# Altium footprint library con-3m.PCBLIB: 62 footprints (part 5 of 6)
Each footprint in its own frame and in the unit in brackets; x right, y up, seen from the top. Pads: shape width x height; smd on the part's side, far side on the other; paste and mask are expansions set on the pad; w line width, h text height; cw(c..) or ccw(c..) is an arc to the next point about the centre after c.
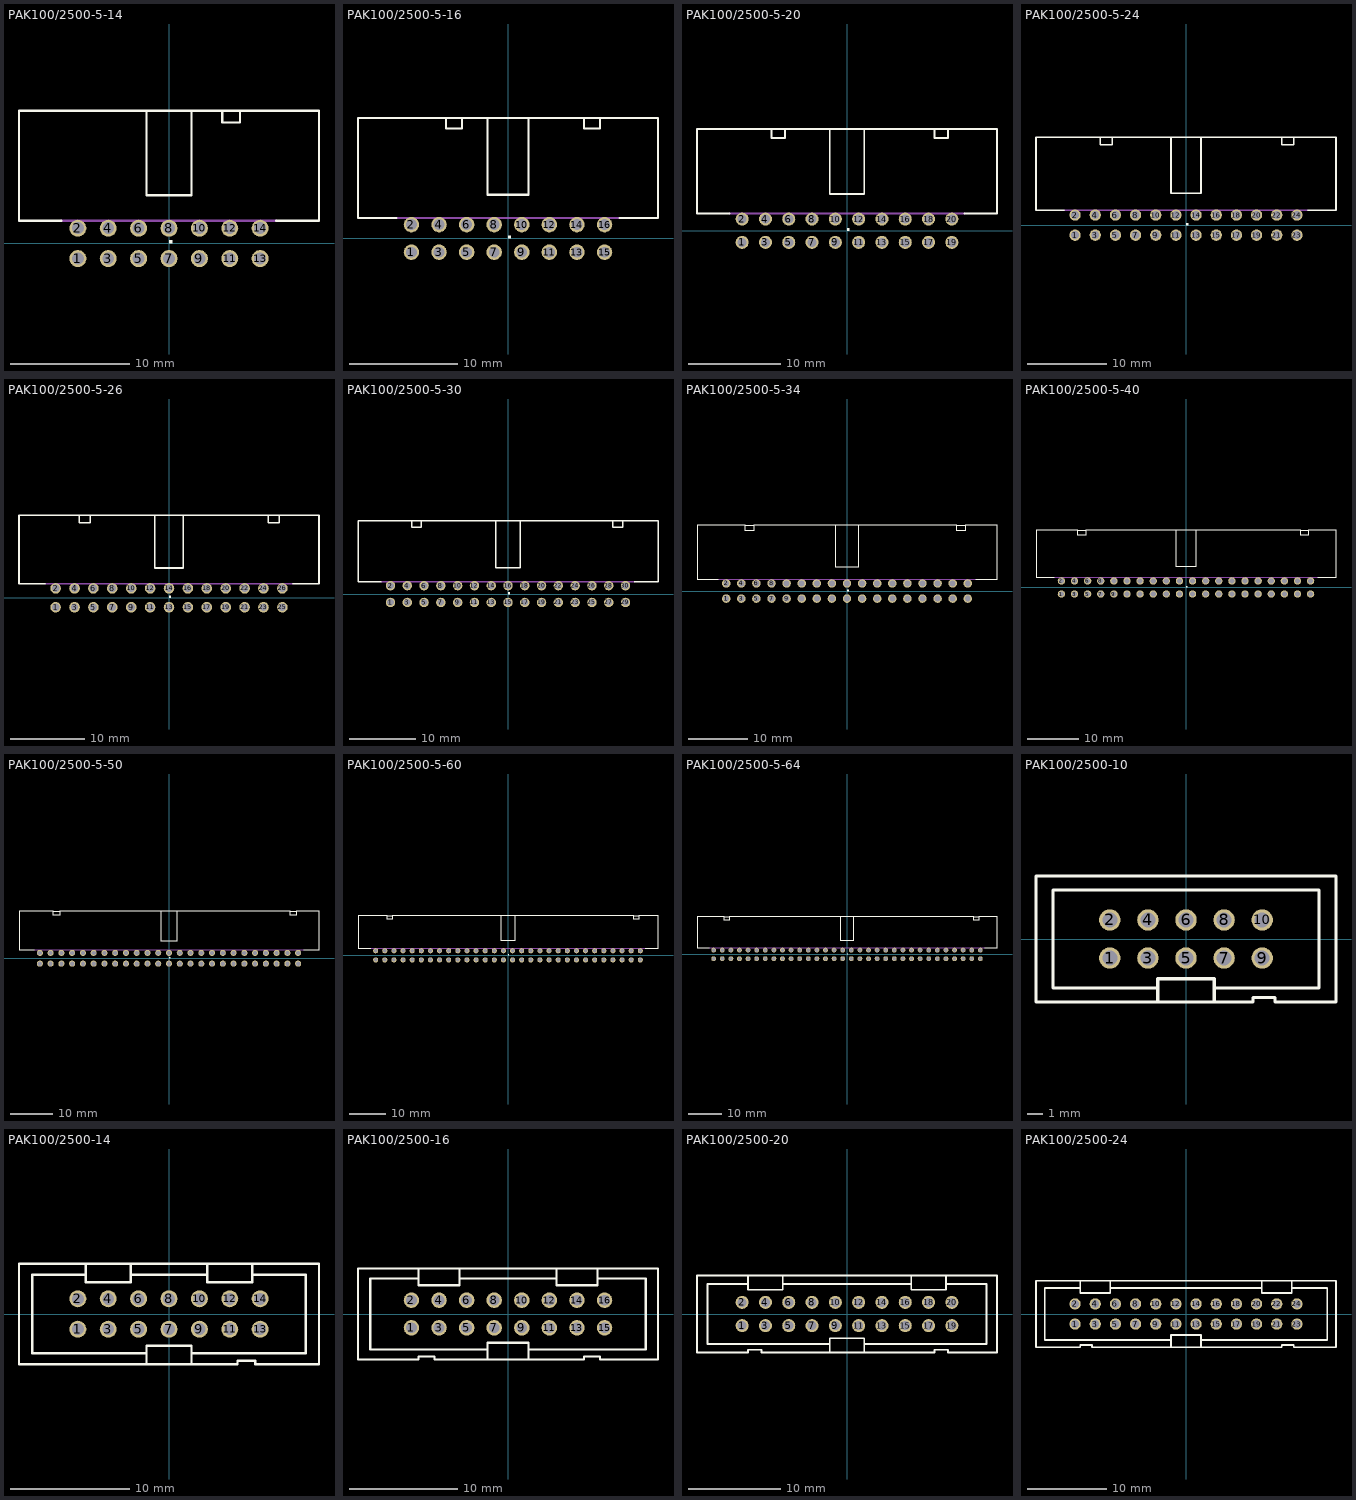
[diagram p4: the footprints below, top view; thin cyan lines are the x and y axes]

## PAK100/2500-5-14 [mil]
pads (14):
  round 56 hole 39.37: 1(-300,-50) 2(-300,50) 3(-200,-50) 4(-200,50) 5(-100,-50) 6(-100,50) 7(0,-50) 8(0,50) 9(100,-50) 10(100,50) 11(200,-50) 12(200,50) 13(300,-50) 14(300,50)
Top Overlay:
  region: 0,0 10,0 10,10 0,10
  lines w8: -354.17,73.82 -493.7,73.82 -493.7,436.02 -74.13,436.02 ; 353.66,73.82 493.7,73.82 493.7,436.02 233.78,436.02 ; -74.13,436.02 -74.13,157.87 74.13,157.87 74.13,436.02 ; -74.13,436.02 74.13,436.02 ; 74.13,436.02 175.55,436.02 ; 175.55,436.02 233.78,436.02 ; 175.55,436.02 175.55,397.83 233.78,397.83 233.78,436.02
Mechanical 16:
  lines w8: -354.02,73.82 353.5,73.82

## PAK100/2500-5-16 [mil]
pads (16):
  round 56 hole 39.37: 1(-350,-50) 2(-350,50) 3(-250,-50) 4(-250,50) 5(-150,-50) 6(-150,50) 7(-50,-50) 8(-50,50) 9(50,-50) 10(50,50) 11(150,-50) 12(150,50) 13(250,-50) 14(250,50) 15(350,-50) 16(350,50)
Top Overlay:
  region: 0,0 10,0 10,10 0,10
  lines w8: -404.17,73.82 -543.7,73.82 -543.7,436.02 -224.45,436.02 ; 403.66,73.82 543.7,73.82 543.7,436.02 333.78,436.02 ; -224.45,436.02 -166.22,436.02 ; -224.45,436.02 -224.45,397.83 -166.22,397.83 -166.22,436.02 ; -166.22,436.02 -74.13,436.02 ; -74.13,436.02 -74.13,157.87 74.13,157.87 74.13,436.02 ; -74.13,436.02 74.13,436.02 ; 74.13,436.02 275.55,436.02 ; 275.55,436.02 333.78,436.02 ; 275.55,436.02 275.55,397.83 333.78,397.83 333.78,436.02
Mechanical 16:
  lines w8: -404.02,73.82 403.5,73.82

## PAK100/2500-5-20 [mil]
pads (20):
  round 56 hole 39.37: 1(-450,-50) 2(-450,50) 3(-350,-50) 4(-350,50) 5(-250,-50) 6(-250,50) 7(-150,-50) 8(-150,50) 9(-50,-50) 10(-50,50) 11(50,-50) 12(50,50) 13(150,-50) 14(150,50) 15(250,-50) 16(250,50) 17(350,-50) 18(350,50) 19(450,-50) 20(450,50)
Top Overlay:
  region: 0,0 10,0 10,10 0,10
  lines w8: -504.17,73.82 -643.7,73.82 -643.7,436.02 -324.45,436.02 ; 503.66,73.82 643.7,73.82 643.7,436.02 433.78,436.02 ; -324.45,436.02 -266.22,436.02 ; -324.45,436.02 -324.45,397.83 -266.22,397.83 -266.22,436.02 ; -266.22,436.02 -74.13,436.02 ; -74.13,436.02 -74.13,157.87 74.13,157.87 74.13,436.02 ; -74.13,436.02 74.13,436.02 ; 74.13,436.02 375.55,436.02 ; 375.55,436.02 433.78,436.02 ; 375.55,436.02 375.55,397.83 433.78,397.83 433.78,436.02
Mechanical 16:
  lines w8: -504.02,73.82 503.5,73.82

## PAK100/2500-5-24 [mil]
pads (24):
  round 56 hole 39.37: 1(-550,-50) 2(-550,50) 3(-450,-50) 4(-450,50) 5(-350,-50) 6(-350,50) 7(-250,-50) 8(-250,50) 9(-150,-50) 10(-150,50) 11(-50,-50) 12(-50,50) 13(50,-50) 14(50,50) 15(150,-50) 16(150,50) 17(250,-50) 18(250,50) 19(350,-50) 20(350,50) 21(450,-50) 22(450,50) 23(550,-50) 24(550,50)
Top Overlay:
  region: 0,0 10,0 10,10 0,10
  lines w8: -604.17,73.82 -743.7,73.82 -743.7,436.02 -424.45,436.02 ; 603.66,73.82 743.7,73.82 743.7,436.02 533.78,436.02 ; -424.45,436.02 -366.22,436.02 ; -424.45,436.02 -424.45,397.83 -366.22,397.83 -366.22,436.02 ; -366.22,436.02 -74.13,436.02 ; -74.13,436.02 -74.13,157.87 74.13,157.87 74.13,436.02 ; -74.13,436.02 74.13,436.02 ; 74.13,436.02 475.55,436.02 ; 475.55,436.02 533.78,436.02 ; 475.55,436.02 475.55,397.83 533.78,397.83 533.78,436.02
Mechanical 16:
  lines w8: -604.02,73.82 603.5,73.82

## PAK100/2500-5-26 [mil]
pads (26):
  round 56 hole 39.37: 1(-600,-50) 2(-600,50) 3(-500,-50) 4(-500,50) 5(-400,-50) 6(-400,50) 7(-300,-50) 8(-300,50) 9(-200,-50) 10(-200,50) 11(-100,-50) 12(-100,50) 13(0,-50) 14(0,50) 15(100,-50) 16(100,50) 17(200,-50) 18(200,50) 19(300,-50) 20(300,50) 21(400,-50) 22(400,50) 23(500,-50) 24(500,50) 25(600,-50) 26(600,50)
Top Overlay:
  region: 0,0 10,0 10,10 0,10
  lines w8: -654.17,73.82 -793.7,73.82 -793.7,436.02 -474.45,436.02 ; 653.66,73.82 793.7,73.82 793.7,436.02 583.78,436.02 ; -474.45,436.02 -416.22,436.02 ; -474.45,436.02 -474.45,397.83 -416.22,397.83 -416.22,436.02 ; -416.22,436.02 -74.13,436.02 ; -74.13,436.02 -74.13,157.87 74.13,157.87 74.13,436.02 ; -74.13,436.02 74.13,436.02 ; 74.13,436.02 525.55,436.02 ; 525.55,436.02 583.78,436.02 ; 525.55,436.02 525.55,397.83 583.78,397.83 583.78,436.02
Mechanical 16:
  lines w8: -654.02,73.82 653.5,73.82

## PAK100/2500-5-30 [mil]
pads (30):
  round 56 hole 39.37: 1(-700,-50) 2(-700,50) 3(-600,-50) 4(-600,50) 5(-500,-50) 6(-500,50) 7(-400,-50) 8(-400,50) 9(-300,-50) 10(-300,50) 11(-200,-50) 12(-200,50) 13(-100,-50) 14(-100,50) 15(0,-50) 16(0,50) 17(100,-50) 18(100,50) 19(200,-50) 20(200,50) 21(300,-50) 22(300,50) 23(400,-50) 24(400,50) 25(500,-50) 26(500,50) 27(600,-50) 28(600,50) 29(700,-50) 30(700,50)
Top Overlay:
  region: 0,0 10,0 10,10 0,10
  lines w8: -754.17,73.82 -893.7,73.82 -893.7,436.02 -574.45,436.02 ; 753.66,73.82 893.7,73.82 893.7,436.02 683.78,436.02 ; -574.45,436.02 -516.22,436.02 ; -574.45,436.02 -574.45,397.83 -516.22,397.83 -516.22,436.02 ; -516.22,436.02 -74.13,436.02 ; -74.13,436.02 -74.13,157.87 74.13,157.87 74.13,436.02 ; -74.13,436.02 74.13,436.02 ; 74.13,436.02 625.55,436.02 ; 625.55,436.02 683.78,436.02 ; 625.55,436.02 625.55,397.83 683.78,397.83 683.78,436.02
Mechanical 16:
  lines w8: -754.02,73.82 753.5,73.82

## PAK100/2500-5-34 [mil]
pads (34):
  round 56 hole 39.37: 1(-800,-50) 2(-800,50) 3(-700,-50) 4(-700,50) 5(-600,-50) 6(-600,50) 7(-500,-50) 8(-500,50) 9(-400,-50) 10(-400,50) 11(-300,-50) 12(-300,50) 13(-200,-50) 14(-200,50) 15(-100,-50) 16(-100,50) 17(0,-50) 18(0,50) 19(100,-50) 20(100,50) 21(200,-50) 22(200,50) 23(300,-50) 24(300,50) 25(400,-50) 26(400,50) 27(500,-50) 28(500,50) 29(600,-50) 30(600,50) 31(700,-50) 32(700,50) 33(800,-50) 34(800,50)
Top Overlay:
  region: 0,0 10,0 10,10 0,10
  lines w8: -854.17,73.82 -993.7,73.82 -993.7,436.02 -674.45,436.02 ; 853.66,73.82 993.7,73.82 993.7,436.02 783.78,436.02 ; -674.45,436.02 -616.22,436.02 ; -674.45,436.02 -674.45,397.83 -616.22,397.83 -616.22,436.02 ; -616.22,436.02 -74.13,436.02 ; -74.13,436.02 -74.13,157.87 74.13,157.87 74.13,436.02 ; -74.13,436.02 74.13,436.02 ; 74.13,436.02 725.55,436.02 ; 725.55,436.02 783.78,436.02 ; 725.55,436.02 725.55,397.83 783.78,397.83 783.78,436.02
Mechanical 16:
  lines w8: -854.02,73.82 853.5,73.82

## PAK100/2500-5-40 [mil]
pads (40):
  round 56 hole 39.37: 1(-950,-50) 2(-950,50) 3(-850,-50) 4(-850,50) 5(-750,-50) 6(-750,50) 7(-650,-50) 8(-650,50) 9(-550,-50) 10(-550,50) 11(-450,-50) 12(-450,50) 13(-350,-50) 14(-350,50) 15(-250,-50) 16(-250,50) 17(-150,-50) 18(-150,50) 19(-50,-50) 20(-50,50) 21(50,-50) 22(50,50) 23(150,-50) 24(150,50) 25(250,-50) 26(250,50) 27(350,-50) 28(350,50) 29(450,-50) 30(450,50) 31(550,-50) 32(550,50) 33(650,-50) 34(650,50) 35(750,-50) 36(750,50) 37(850,-50) 38(850,50) 39(950,-50) 40(950,50)
Top Overlay:
  region: 0,0 10,0 10,10 0,10
  lines w8: -1004.17,73.82 -1143.7,73.82 -1143.7,436.02 -824.45,436.02 ; 1003.66,73.82 1143.7,73.82 1143.7,436.02 933.78,436.02 ; -824.45,436.02 -766.22,436.02 ; -824.45,436.02 -824.45,397.83 -766.22,397.83 -766.22,436.02 ; -766.22,436.02 -74.13,436.02 ; -74.13,436.02 -74.13,157.87 74.13,157.87 74.13,436.02 ; -74.13,436.02 74.13,436.02 ; 74.13,436.02 875.55,436.02 ; 875.55,436.02 933.78,436.02 ; 875.55,436.02 875.55,397.83 933.78,397.83 933.78,436.02
Mechanical 16:
  lines w8: -1004.02,73.82 1003.5,73.82

## PAK100/2500-5-50 [mil]
pads (50):
  round 56 hole 39.37: 1(-1200,-50) 2(-1200,50) 3(-1100,-50) 4(-1100,50) 5(-1000,-50) 6(-1000,50) 7(-900,-50) 8(-900,50) 9(-800,-50) 10(-800,50) 11(-700,-50) 12(-700,50) 13(-600,-50) 14(-600,50) 15(-500,-50) 16(-500,50) 17(-400,-50) 18(-400,50) 19(-300,-50) 20(-300,50) 21(-200,-50) 22(-200,50) 23(-100,-50) 24(-100,50) 25(0,-50) 26(0,50) 27(100,-50) 28(100,50) 29(200,-50) 30(200,50) 31(300,-50) 32(300,50) 33(400,-50) 34(400,50) 35(500,-50) 36(500,50) 37(600,-50) 38(600,50) 39(700,-50) 40(700,50) 41(800,-50) 42(800,50) 43(900,-50) 44(900,50) 45(1000,-50) 46(1000,50) 47(1100,-50) 48(1100,50) 49(1200,-50) 50(1200,50)
Top Overlay:
  region: 0,0 10,0 10,10 0,10
  lines w8: -1254.17,73.82 -1393.7,73.82 -1393.7,436.02 -1074.45,436.02 ; 1253.66,73.82 1393.7,73.82 1393.7,436.02 1183.78,436.02 ; -1074.45,436.02 -1016.22,436.02 ; -1074.45,436.02 -1074.45,397.83 -1016.22,397.83 -1016.22,436.02 ; -1016.22,436.02 -74.13,436.02 ; -74.13,436.02 -74.13,157.87 74.13,157.87 74.13,436.02 ; -74.13,436.02 74.13,436.02 ; 74.13,436.02 1125.55,436.02 ; 1125.55,436.02 1183.78,436.02 ; 1125.55,436.02 1125.55,397.83 1183.78,397.83 1183.78,436.02
Mechanical 16:
  lines w8: -1254.02,73.82 1253.5,73.82

## PAK100/2500-5-60 [mil]
pads (60):
  round 56 hole 39.37: 1(-1450,-50) 2(-1450,50) 3(-1350,-50) 4(-1350,50) 5(-1250,-50) 6(-1250,50) 7(-1150,-50) 8(-1150,50) 9(-1050,-50) 10(-1050,50) 11(-950,-50) 12(-950,50) 13(-850,-50) 14(-850,50) 15(-750,-50) 16(-750,50) 17(-650,-50) 18(-650,50) 19(-550,-50) 20(-550,50) 21(-450,-50) 22(-450,50) 23(-350,-50) 24(-350,50) 25(-250,-50) 26(-250,50) 27(-150,-50) 28(-150,50) 29(-50,-50) 30(-50,50) 31(50,-50) 32(50,50) 33(150,-50) 34(150,50) 35(250,-50) 36(250,50) 37(350,-50) 38(350,50) 39(450,-50) 40(450,50) 41(550,-50) 42(550,50) 43(650,-50) 44(650,50) 45(750,-50) 46(750,50) 47(850,-50) 48(850,50) 49(950,-50) 50(950,50) 51(1050,-50) 52(1050,50) 53(1150,-50) 54(1150,50) 55(1250,-50) 56(1250,50) 57(1350,-50) 58(1350,50) 59(1450,-50) 60(1450,50)
Top Overlay:
  region: 0,0 10,0 10,10 0,10
  lines w8: -1504.17,73.82 -1643.7,73.82 -1643.7,436.02 -1324.45,436.02 ; 1503.66,73.82 1643.7,73.82 1643.7,436.02 1433.78,436.02 ; -1324.45,436.02 -1266.22,436.02 ; -1324.45,436.02 -1324.45,397.83 -1266.22,397.83 -1266.22,436.02 ; -1266.22,436.02 -74.13,436.02 ; -74.13,436.02 -74.13,157.87 74.13,157.87 74.13,436.02 ; -74.13,436.02 74.13,436.02 ; 74.13,436.02 1375.55,436.02 ; 1375.55,436.02 1433.78,436.02 ; 1375.55,436.02 1375.55,397.83 1433.78,397.83 1433.78,436.02
Mechanical 16:
  lines w8: -1504.02,73.82 1503.5,73.82

## PAK100/2500-5-64 [mil]
pads (64):
  round 56 hole 39.37: 1(-1550,-50) 2(-1550,50) 3(-1450,-50) 4(-1450,50) 5(-1350,-50) 6(-1350,50) 7(-1250,-50) 8(-1250,50) 9(-1150,-50) 10(-1150,50) 11(-1050,-50) 12(-1050,50) 13(-950,-50) 14(-950,50) 15(-850,-50) 16(-850,50) 17(-750,-50) 18(-750,50) 19(-650,-50) 20(-650,50) 21(-550,-50) 22(-550,50) 23(-450,-50) 24(-450,50) 25(-350,-50) 26(-350,50) 27(-250,-50) 28(-250,50) 29(-150,-50) 30(-150,50) 31(-50,-50) 32(-50,50) 33(50,-50) 34(50,50) 35(150,-50) 36(150,50) 37(250,-50) 38(250,50) 39(350,-50) 40(350,50) 41(450,-50) 42(450,50) 43(550,-50) 44(550,50) 45(650,-50) 46(650,50) 47(750,-50) 48(750,50) 49(850,-50) 50(850,50) 51(950,-50) 52(950,50) 53(1050,-50) 54(1050,50) 55(1150,-50) 56(1150,50) 57(1250,-50) 58(1250,50) 59(1350,-50) 60(1350,50) 61(1450,-50) 62(1450,50) 63(1550,-50) 64(1550,50)
Top Overlay:
  region: 0,0 10,0 10,10 0,10
  lines w8: -1604.17,73.82 -1743.7,73.82 -1743.7,436.02 -1424.45,436.02 ; 1603.66,73.82 1743.7,73.82 1743.7,436.02 1533.78,436.02 ; -1424.45,436.02 -1366.22,436.02 ; -1424.45,436.02 -1424.45,397.83 -1366.22,397.83 -1366.22,436.02 ; -1366.22,436.02 -74.13,436.02 ; -74.13,436.02 -74.13,157.87 74.13,157.87 74.13,436.02 ; -74.13,436.02 74.13,436.02 ; 74.13,436.02 1475.55,436.02 ; 1475.55,436.02 1533.78,436.02 ; 1475.55,436.02 1475.55,397.83 1533.78,397.83 1533.78,436.02
Mechanical 16:
  lines w8: -1604.02,73.82 1603.5,73.82

## PAK100/2500-10 [mil]
pads (10):
  round 56 hole 39.37: 1(-200,-50) 2(-200,50) 3(-100,-50) 4(-100,50) 5(0,-50) 6(0,50) 7(100,-50) 8(100,50) 9(200,-50) 10(200,50)
Top Overlay:
  lines w8: -74.13,-128.94 -349.41,-128.94 -349.41,128.94 349.41,128.94 349.41,-128.94 74.13,-128.94 ; -74.13,-165.35 -74.13,-104.33 74.13,-104.33 74.13,-165.35 ; -74.13,-165.35 74.13,-165.35 ; -74.13,-165.35 -393.7,-165.35 -393.7,165.35 393.7,165.35 393.7,-165.35 233.78,-165.35 233.78,-153.54 175.55,-153.54 175.55,-165.35 74.13,-165.35

## PAK100/2500-14 [mil]
pads (14):
  round 56 hole 39.37: 1(-300,-50) 2(-300,50) 3(-200,-50) 4(-200,50) 5(-100,-50) 6(-100,50) 7(0,-50) 8(0,50) 9(100,-50) 10(100,50) 11(200,-50) 12(200,50) 13(300,-50) 14(300,50)
Top Overlay:
  lines w8: -274.41,128.94 -449.41,128.94 -449.41,-128.94 -74.13,-128.94 ; -125.79,128.94 125.79,128.94 ; 74.13,-128.94 449.41,-128.94 449.41,128.94 274.41,128.94 ; -274.13,165.35 -493.7,165.35 -493.7,-165.35 -74.13,-165.35 ; -274.13,165.35 -125.87,165.35 ; -274.13,165.35 -274.13,104.33 -125.87,104.33 -125.87,165.35 ; -125.87,165.35 125.87,165.35 ; -74.13,-165.35 -74.13,-104.33 74.13,-104.33 74.13,-165.35 ; -74.13,-165.35 74.13,-165.35 ; 74.13,-165.35 225.55,-165.35 225.55,-153.54 283.78,-153.54 283.78,-165.35 493.7,-165.35 493.7,165.35 274.13,165.35 ; 125.87,165.35 274.13,165.35 ; 125.87,165.35 125.87,104.33 274.13,104.33 274.13,165.35

## PAK100/2500-16 [mil]
pads (16):
  round 56 hole 39.37: 1(-350,-50) 2(-350,50) 3(-250,-50) 4(-250,50) 5(-150,-50) 6(-150,50) 7(-50,-50) 8(-50,50) 9(50,-50) 10(50,50) 11(150,-50) 12(150,50) 13(250,-50) 14(250,50) 15(350,-50) 16(350,50)
Top Overlay:
  lines w8: -324.41,128.94 -499.41,128.94 -499.41,-128.94 -74.13,-128.94 ; -175.79,128.94 175.79,128.94 ; 74.13,-128.94 499.41,-128.94 499.41,128.94 324.41,128.94 ; -324.13,165.35 -543.7,165.35 -543.7,-165.35 -324.45,-165.35 -324.45,-153.54 -266.22,-153.54 -266.22,-165.35 -74.13,-165.35 ; -324.13,165.35 -175.87,165.35 ; -324.13,165.35 -324.13,104.33 -175.87,104.33 -175.87,165.35 ; -175.87,165.35 175.87,165.35 ; -74.13,-165.35 -74.13,-104.33 74.13,-104.33 74.13,-165.35 ; -74.13,-165.35 74.13,-165.35 ; 74.13,-165.35 275.55,-165.35 275.55,-153.54 333.78,-153.54 333.78,-165.35 543.7,-165.35 543.7,165.35 324.13,165.35 ; 175.87,165.35 324.13,165.35 ; 175.87,165.35 175.87,104.33 324.13,104.33 324.13,165.35

## PAK100/2500-20 [mil]
pads (20):
  round 56 hole 39.37: 1(-450,-50) 2(-450,50) 3(-350,-50) 4(-350,50) 5(-250,-50) 6(-250,50) 7(-150,-50) 8(-150,50) 9(-50,-50) 10(-50,50) 11(50,-50) 12(50,50) 13(150,-50) 14(150,50) 15(250,-50) 16(250,50) 17(350,-50) 18(350,50) 19(450,-50) 20(450,50)
Top Overlay:
  lines w8: -424.41,128.94 -599.41,128.94 -599.41,-128.94 -74.13,-128.94 ; -275.79,128.94 275.79,128.94 ; 74.13,-128.94 599.41,-128.94 599.41,128.94 424.41,128.94 ; -424.13,165.35 -643.7,165.35 -643.7,-165.35 -424.45,-165.35 -424.45,-153.54 -366.22,-153.54 -366.22,-165.35 -74.13,-165.35 ; -424.13,165.35 -275.87,165.35 ; -424.13,165.35 -424.13,104.33 -275.87,104.33 -275.87,165.35 ; -275.87,165.35 275.87,165.35 ; -74.13,-165.35 -74.13,-104.33 74.13,-104.33 74.13,-165.35 ; -74.13,-165.35 74.13,-165.35 ; 74.13,-165.35 375.55,-165.35 375.55,-153.54 433.78,-153.54 433.78,-165.35 643.7,-165.35 643.7,165.35 424.13,165.35 ; 275.87,165.35 424.13,165.35 ; 275.87,165.35 275.87,104.33 424.13,104.33 424.13,165.35

## PAK100/2500-24 [mil]
pads (24):
  round 56 hole 39.37: 1(-550,-50) 2(-550,50) 3(-450,-50) 4(-450,50) 5(-350,-50) 6(-350,50) 7(-250,-50) 8(-250,50) 9(-150,-50) 10(-150,50) 11(-50,-50) 12(-50,50) 13(50,-50) 14(50,50) 15(150,-50) 16(150,50) 17(250,-50) 18(250,50) 19(350,-50) 20(350,50) 21(450,-50) 22(450,50) 23(550,-50) 24(550,50)
Top Overlay:
  lines w8: -524.41,128.94 -699.41,128.94 -699.41,-128.94 -74.13,-128.94 ; -375.79,128.94 375.79,128.94 ; 74.13,-128.94 699.41,-128.94 699.41,128.94 524.41,128.94 ; -524.13,165.35 -743.7,165.35 -743.7,-165.35 -524.45,-165.35 -524.45,-153.54 -466.22,-153.54 -466.22,-165.35 -74.13,-165.35 ; -524.13,165.35 -375.87,165.35 ; -524.13,165.35 -524.13,104.33 -375.87,104.33 -375.87,165.35 ; -375.87,165.35 375.87,165.35 ; -74.13,-165.35 -74.13,-104.33 74.13,-104.33 74.13,-165.35 ; -74.13,-165.35 74.13,-165.35 ; 74.13,-165.35 475.55,-165.35 475.55,-153.54 533.78,-153.54 533.78,-165.35 743.7,-165.35 743.7,165.35 524.13,165.35 ; 375.87,165.35 524.13,165.35 ; 375.87,165.35 375.87,104.33 524.13,104.33 524.13,165.35